# EAGLE library part LMH6639MF (library LMH6639MF)
Check availability <https://pricing.snapeda.com/parts/LMH6639MF/Texas%20Instruments/view-part?ref=eda>
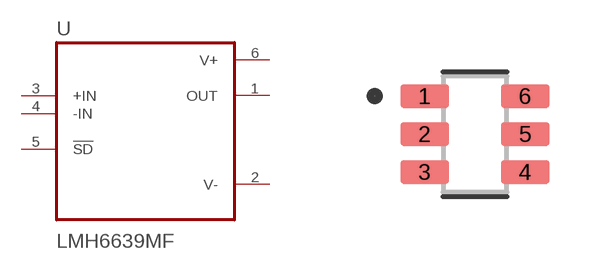
[diagram p0: symbol with the pads of SOT95P280X145-6N; footprint SOT95P280X145-6N]

Designator prefix U

## LMH6639MF (Availability: In Stock; Check_prices: https://www.snapeda.com/parts/LMH6639MF/Texas+Instruments/view-part/?ref=eda; Description: 190MHz Rail-to-Rail Output Amplifier with Disable 6-SOT-23 -40 to 85; MF: Texas Instruments; MP: LMH6639MF; Package: SOT-23-6 Texas Instruments; Price: None; SnapEDA_Link: https://www.snapeda.com/parts/LMH6639MF/Texas+Instruments/view-part/?ref=snap)  [SOT95P280X145-6N]
1  OUT  out
2  V-  pwr
3  +IN  in
4  -IN  in
5  !SD
6  V+  pwr

## Footprint SOT95P280X145-6N (pad centres in mm)
smd 1.21 x 0.58: 1 -1.255,0.95; 2 -1.255,0; 3 -1.255,-0.95; 4 1.255,-0.95; 5 1.255,0; 6 1.255,0.95